# EAGLE library part TRINKET_SHIELD (library DZ)
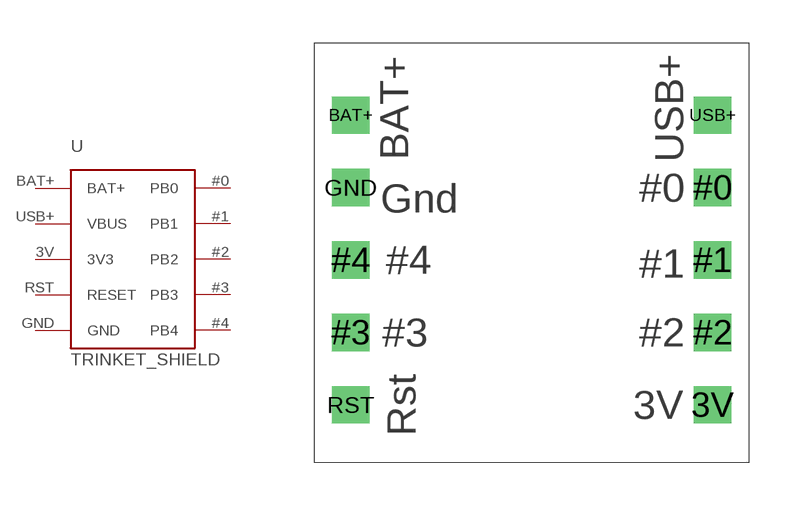
[diagram p0: symbol with the pads of TRINKET_SHIELD; footprint TRINKET_SHIELD]

Designator prefix -

## TRINKET_SHIELD  [TRINKET_SHIELD]
3V  3V3  pwr
#0  PB0
#1  PB1
#2  PB2
#3  PB3
#4  PB4
BAT+  BAT+  pwr
GND  GND
RST  RESET
USB+  VBUS  pwr

## Footprint TRINKET_SHIELD (pad centres in mm)
drill 0.8 square: 3V 5.08,-6.35; #0 5.08,1.27; #1 5.08,-1.27; #2 5.08,-3.81; #3 -7.62,-3.81; #4 -7.62,-1.27; BAT+ -7.62,3.81; GND -7.62,1.27; RST -7.62,-6.35; USB+ 5.08,3.81